# Altium schematic symbol library Photocouplers.SchLib: 6 symbols
Pins are listed as number, name and electrical type; pins without a type are passive.

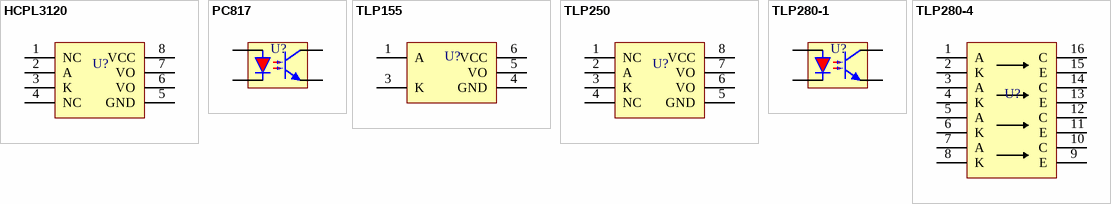
[diagram p0: symbols HCPL3120 to TLP280-4]

## HCPL3120
designator U?  (value not drawn)
Photocoupler 15-30V, 2A, 500ns, 2500Vrms
footprint SOP-8
pins: 1 NC, 2 A, 3 K, 4 NC, 5 GND, 6 VO, 7 VO, 8 VCC

## PC817
designator U?  (value not drawn)
Photocoupler
footprint SSOP-4
pins: 1, 2, 3, 4

## TLP155
designator U?  (value not drawn)
Photocoupler 10-35V, 0.6A, 200ns, 3750Vrms
footprint SO-6-5
pins: 1 A, 3 K, 4 GND, 5 VO, 6 VCC

## TLP250
designator U?  (value not drawn)
Photocoupler 10-35V, 1.5A, 1.5μs, 2500Vrms
footprint DIP-8
pins: 1 NC, 2 A, 3 K, 4 NC, 5 GND, 6 VO, 7 VO, 8 VCC

## TLP280-1
designator U?  (value not drawn)
Photocoupler
footprint SSOP-4
pins: 1, 2, 3, 4

## TLP280-4
designator U?  (value not drawn)
Photocoupler
footprint SOP-16
pins: 1 A, 2 K, 3 A, 4 K, 5 A, 6 K, 7 A, 8 K, 9 E, 10 C, 11 E, 12 C, 13 E, 14 C, 15 E, 16 C